# EAGLE library part DS1629 (library 000001)
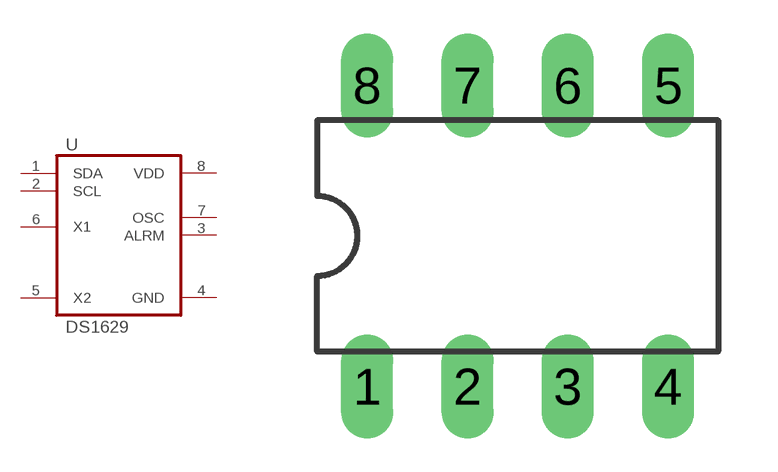
[diagram p6: symbol with the pads of DIL08; footprint DIL08]

Designator prefix -

## DS1629  [DIL08]
1  SDA
2  SCL
3  ALRM  out
4  GND  pwr
5  X2  in
6  X1  in
7  OSC  out
8  VDD  pwr

## Footprint DIL08 (pad centres in mm)
Dual In Line Package
drill 0.813 long: 1 -3.81,-3.81; 2 -1.27,-3.81; 3 1.27,-3.81; 4 3.81,-3.81; 5 3.81,3.81; 6 1.27,3.81; 7 -1.27,3.81; 8 -3.81,3.81